# Altium integrated library Linear Technology Power Management Switching Regulator LT1074-LT8705.IntLib: 2252 symbols (part 83 of 148)
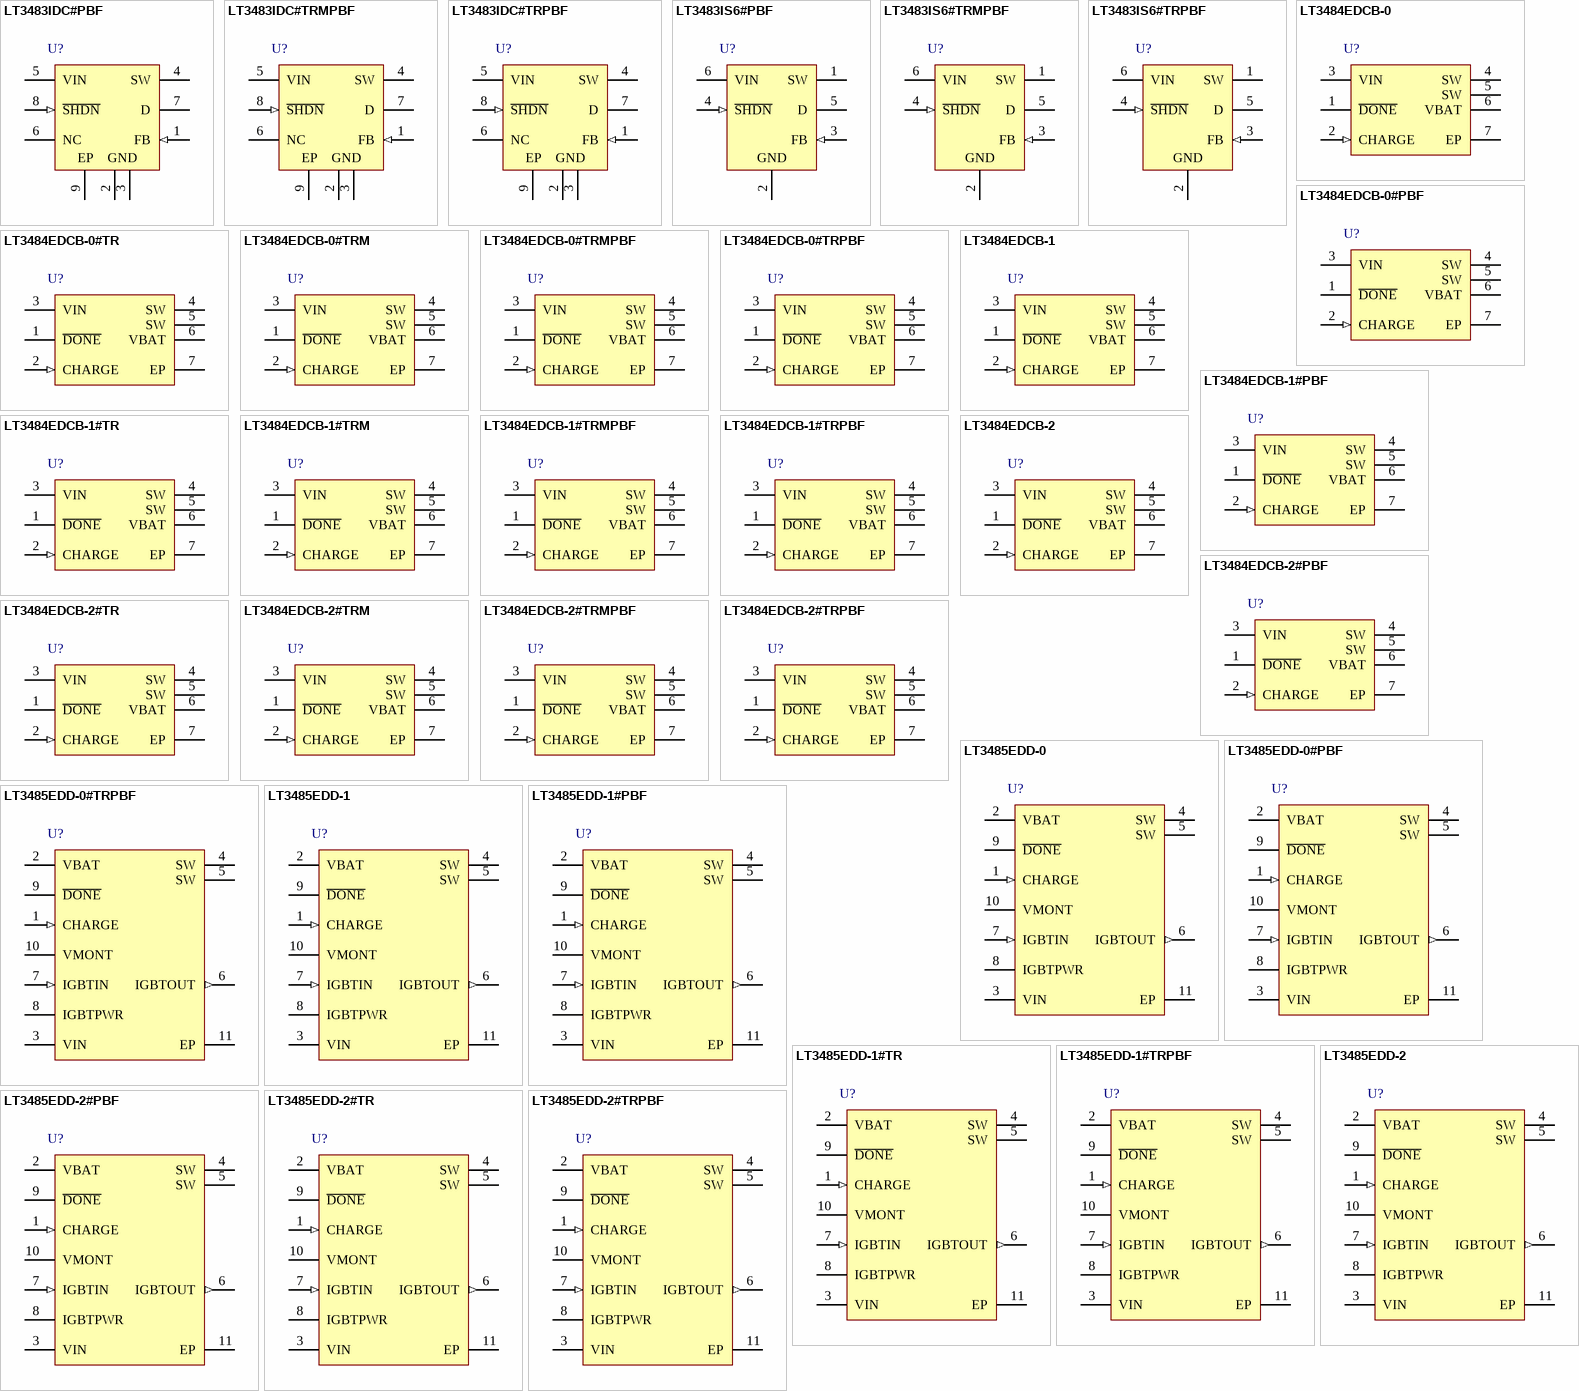
[diagram p153: symbols LT3483IDC#PBF to LT3485EDD-2#TRPBF]

## LT3485EDD-2#PBF
designator U?
Photoflash Capacitor Chargers with Output Voltage Monitor and Integrated IGBT Drive, 10-pin SON (DD-10), -40 to 85 degC, Pb-Free; Manufacturer: Linear Technology; PartNumber: LT3485EDD-2#PBF; Number of Outputs: 1; DatasheetVersion: Rev. B; PackageVersion: Rev. C, 06/2010; PackageReference: DD-10; PackageDescription: 10-Pin Plastic DFN, Body 3 x 3 mm, Pitch 0.5 mm; Supplier 1: Digi-Key; Supplier Part Number 1: LT3485EDD-2#PBF-ND; RoHS: TRUE; Mounting Technology: Surface Mount; Code_JEDEC: MO-229; ComponentLink1Description: Manufacturer URL; ComponentLink1URL: http://www.linear.com/; ComponentLink2Description: Datasheet; ComponentLink2URL: http://cds.linear.com/docs/en/datasheet/34850123fb.pdf; ComponentLink3Description: Package Specification; ComponentLink3URL: http://cds.linear.com/docs/en/packaging/DFN_10_05-08-1699.pdf
footprint LT-DD-10_V (SON, 10-Leads, Body 3x3mm, Pitch 0.5mm, Thermal Pad 2.38x1.65mm)
pins: 1 CHARGE (in) "Charge Pin. A low (<0.3V) to high (>1V) transition on this pin puts the part into power delivery mode. Once the target voltage is reached, the part will stop charging the output. Toggle this pin to start charging again. (See Datasheet)", 2 VBAT (power) "Battery Supply Pin. Must be locally bypassed with a good quality ceramic capacitor. Battery supply must be 1.7V or higher.", 3 VIN (power) "Input Supply Pin. Must be locally bypassed with a good quality ceramic capacitor. Input supply must be 2.5V or higher.", 4 SW (power) "Switch Pin. This is the collector of the internal NPN power switch. Minimize the metal trace area connected to this pin to minimize EMI. Tie one side of the primary of the transformer to this pin. The target output voltage (See Datasheet)", 5 SW (power) "Switch Pin. This is the collector of the internal NPN power switch. Minimize the metal trace area connected to this pin to minimize EMI. Tie one side of the primary of the transformer to this pin. The target output voltage (See Datasheet)", 6 IGBTOUT (out) "Output Drive for IGBT Gate. Connect this pin to the gate of the IGBT.", 7 IGBTIN (in) "Logic Input Pin for IGBT Drive. When this pin is driven higher than 1.5V, the IGBT output pin goes high. When the pin is below 0.3V, the output is low.", 8 IGBTPWR (power) "Input Supply Pin. Must be locally bypassed with a good quality ceramic capacitor. Input supply must be 0.1V higher than the turn-on voltage for the IGBT.", 9 ~{DONE} (oc) "Open NPN Collector Indication Pin. When target output voltage is reached, NPN turns on. This pin needs a pull-up resistor or current source.", 10 VMONT (power) "Supplies a voltage proportional to the output voltage where 1V is the end of charge voltage. Only valid while the part is charging.", 11 EP (power) "Ground. Tie directly to local ground plane"

## LT3485EDD-2#TR
designator U?
Photoflash Capacitor Chargers with Output Voltage Monitor and Integrated IGBT Drive, 10-pin SON (DD-10), -40 to 85 degC, Tape and Reel; Manufacturer: Linear Technology; PartNumber: LT3485EDD-2#TR; Number of Outputs: 1; DatasheetVersion: Rev. B; PackageVersion: Rev. C, 06/2010; PackageReference: DD-10; PackageDescription: 10-Pin Plastic DFN, Body 3 x 3 mm, Pitch 0.5 mm; Packing: Tape and Reel; RoHS: FALSE; Mounting Technology: Surface Mount; Code_JEDEC: MO-229; ComponentLink1Description: Manufacturer URL; ComponentLink1URL: http://www.linear.com/; ComponentLink2Description: Datasheet; ComponentLink2URL: http://cds.linear.com/docs/en/datasheet/34850123fb.pdf; ComponentLink3Description: Package Specification; ComponentLink3URL: http://cds.linear.com/docs/en/packaging/DFN_10_05-08-1699.pdf
footprint LT-DD-10_V (SON, 10-Leads, Body 3x3mm, Pitch 0.5mm, Thermal Pad 2.38x1.65mm)
pins: 1 CHARGE (in) "Charge Pin. A low (<0.3V) to high (>1V) transition on this pin puts the part into power delivery mode. Once the target voltage is reached, the part will stop charging the output. Toggle this pin to start charging again. (See Datasheet)", 2 VBAT (power) "Battery Supply Pin. Must be locally bypassed with a good quality ceramic capacitor. Battery supply must be 1.7V or higher.", 3 VIN (power) "Input Supply Pin. Must be locally bypassed with a good quality ceramic capacitor. Input supply must be 2.5V or higher.", 4 SW (power) "Switch Pin. This is the collector of the internal NPN power switch. Minimize the metal trace area connected to this pin to minimize EMI. Tie one side of the primary of the transformer to this pin. The target output voltage (See Datasheet)", 5 SW (power) "Switch Pin. This is the collector of the internal NPN power switch. Minimize the metal trace area connected to this pin to minimize EMI. Tie one side of the primary of the transformer to this pin. The target output voltage (See Datasheet)", 6 IGBTOUT (out) "Output Drive for IGBT Gate. Connect this pin to the gate of the IGBT.", 7 IGBTIN (in) "Logic Input Pin for IGBT Drive. When this pin is driven higher than 1.5V, the IGBT output pin goes high. When the pin is below 0.3V, the output is low.", 8 IGBTPWR (power) "Input Supply Pin. Must be locally bypassed with a good quality ceramic capacitor. Input supply must be 0.1V higher than the turn-on voltage for the IGBT.", 9 ~{DONE} (oc) "Open NPN Collector Indication Pin. When target output voltage is reached, NPN turns on. This pin needs a pull-up resistor or current source.", 10 VMONT (power) "Supplies a voltage proportional to the output voltage where 1V is the end of charge voltage. Only valid while the part is charging.", 11 EP (power) "Ground. Tie directly to local ground plane"

## LT3485EDD-2#TRPBF
designator U?
Photoflash Capacitor Chargers with Output Voltage Monitor and Integrated IGBT Drive, 10-pin SON (DD-10), -40 to 85 degC, Pb-Free, Tape and Reel; Manufacturer: Linear Technology; PartNumber: LT3485EDD-2#TRPBF; Number of Outputs: 1; DatasheetVersion: Rev. B; PackageVersion: Rev. C, 06/2010; PackageReference: DD-10; PackageDescription: 10-Pin Plastic DFN, Body 3 x 3 mm, Pitch 0.5 mm; Supplier 1: Digi-Key; Supplier Part Number 1: LT3485EDD-2#TRPBF-ND; Packing: Tape and Reel; RoHS: TRUE; Mounting Technology: Surface Mount; Code_JEDEC: MO-229; ComponentLink1Description: Manufacturer URL; ComponentLink1URL: http://www.linear.com/; ComponentLink2Description: Datasheet; ComponentLink2URL: http://cds.linear.com/docs/en/datasheet/34850123fb.pdf; ComponentLink3Description: Package Specification; ComponentLink3URL: http://cds.linear.com/docs/en/packaging/DFN_10_05-08-1699.pdf
footprint LT-DD-10_V (SON, 10-Leads, Body 3x3mm, Pitch 0.5mm, Thermal Pad 2.38x1.65mm)
pins: 1 CHARGE (in) "Charge Pin. A low (<0.3V) to high (>1V) transition on this pin puts the part into power delivery mode. Once the target voltage is reached, the part will stop charging the output. Toggle this pin to start charging again. (See Datasheet)", 2 VBAT (power) "Battery Supply Pin. Must be locally bypassed with a good quality ceramic capacitor. Battery supply must be 1.7V or higher.", 3 VIN (power) "Input Supply Pin. Must be locally bypassed with a good quality ceramic capacitor. Input supply must be 2.5V or higher.", 4 SW (power) "Switch Pin. This is the collector of the internal NPN power switch. Minimize the metal trace area connected to this pin to minimize EMI. Tie one side of the primary of the transformer to this pin. The target output voltage (See Datasheet)", 5 SW (power) "Switch Pin. This is the collector of the internal NPN power switch. Minimize the metal trace area connected to this pin to minimize EMI. Tie one side of the primary of the transformer to this pin. The target output voltage (See Datasheet)", 6 IGBTOUT (out) "Output Drive for IGBT Gate. Connect this pin to the gate of the IGBT.", 7 IGBTIN (in) "Logic Input Pin for IGBT Drive. When this pin is driven higher than 1.5V, the IGBT output pin goes high. When the pin is below 0.3V, the output is low.", 8 IGBTPWR (power) "Input Supply Pin. Must be locally bypassed with a good quality ceramic capacitor. Input supply must be 0.1V higher than the turn-on voltage for the IGBT.", 9 ~{DONE} (oc) "Open NPN Collector Indication Pin. When target output voltage is reached, NPN turns on. This pin needs a pull-up resistor or current source.", 10 VMONT (power) "Supplies a voltage proportional to the output voltage where 1V is the end of charge voltage. Only valid while the part is charging.", 11 EP (power) "Ground. Tie directly to local ground plane"

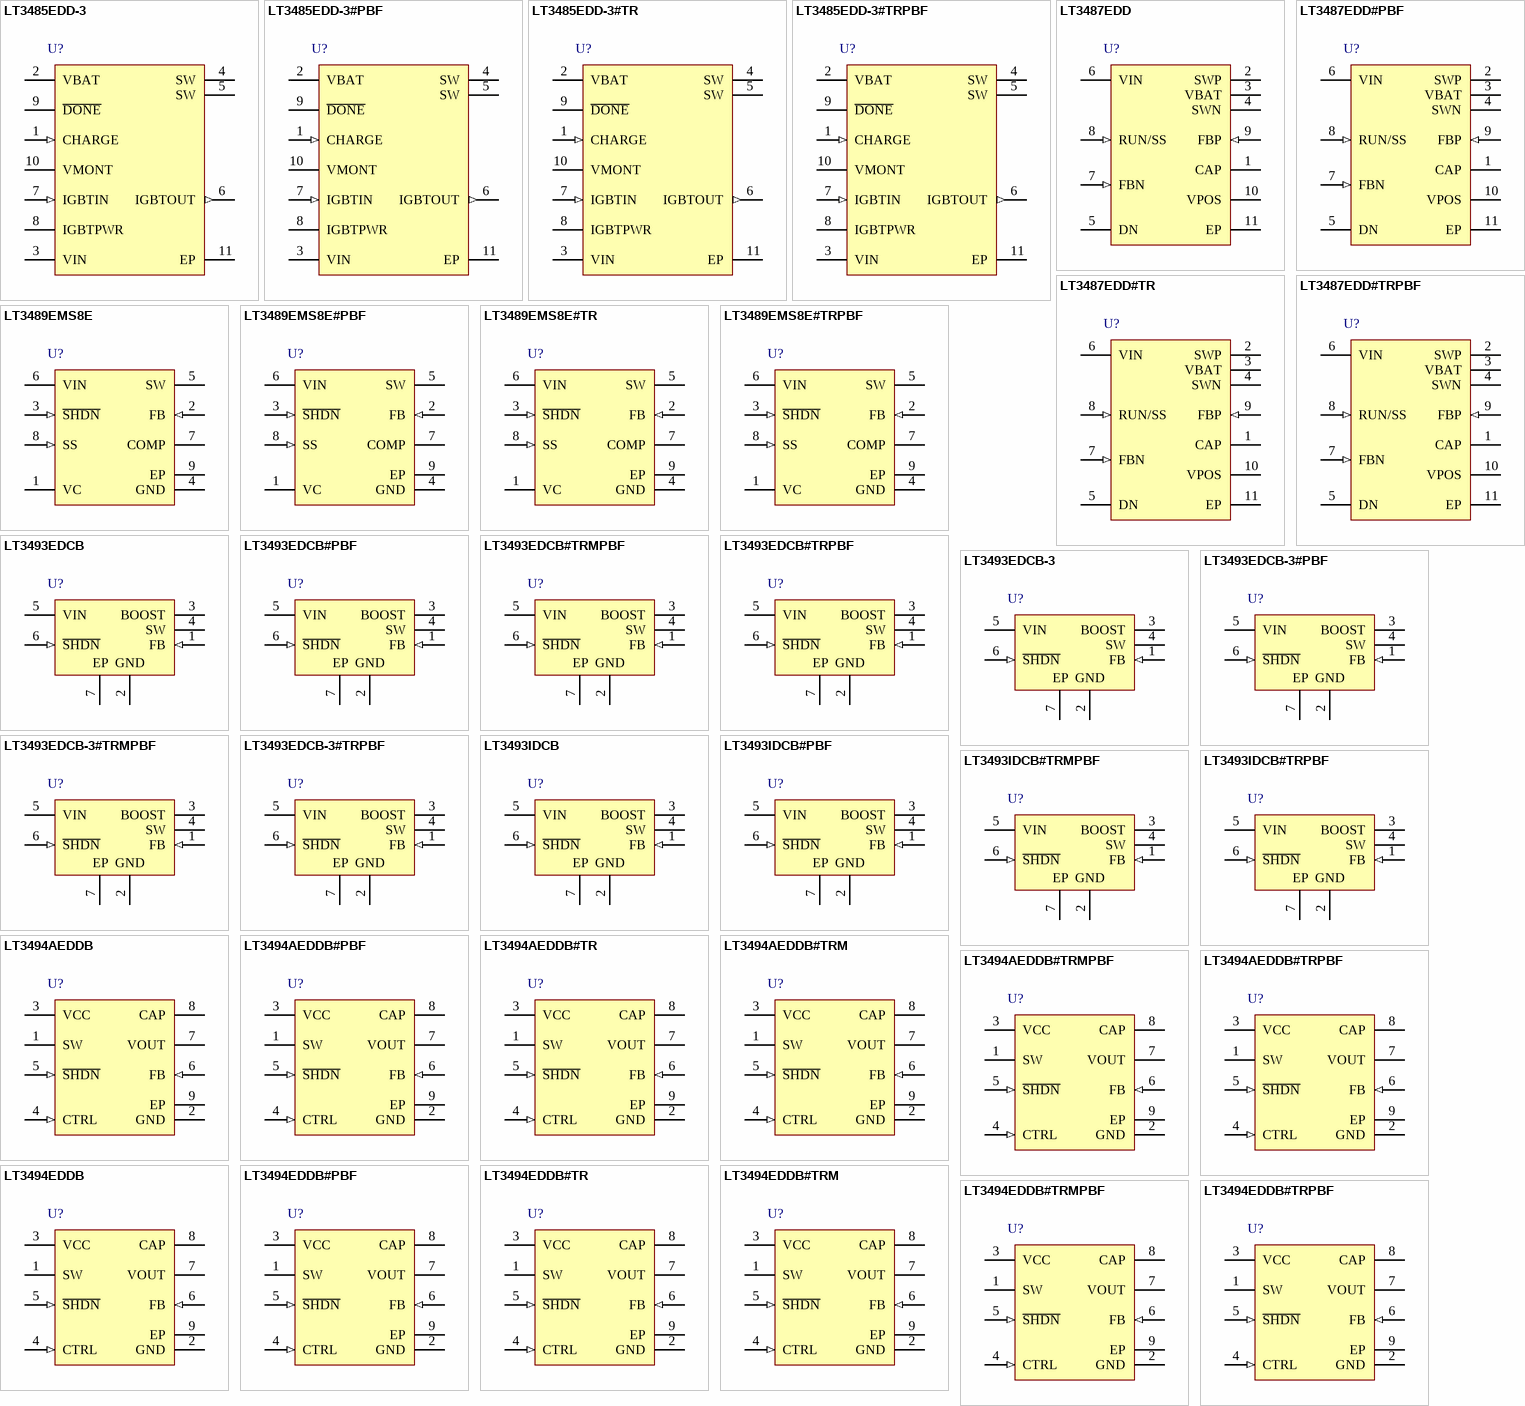
[diagram p42: symbols LT3485EDD-3 to LT3494EDDB#TRPBF]

## LT3485EDD-3
designator U?
Photoflash Capacitor Chargers with Output Voltage Monitor and Integrated IGBT Drive, 10-pin SON (DD-10), -40 to 85 degC; Manufacturer: Linear Technology; PartNumber: LT3485EDD-3; Number of Outputs: 1; DatasheetVersion: Rev. B; PackageVersion: Rev. C, 06/2010; PackageReference: DD-10; PackageDescription: 10-Pin Plastic DFN, Body 3 x 3 mm, Pitch 0.5 mm; RoHS: FALSE; Mounting Technology: Surface Mount; Code_JEDEC: MO-229; ComponentLink1Description: Manufacturer URL; ComponentLink1URL: http://www.linear.com/; ComponentLink2Description: Datasheet; ComponentLink2URL: http://cds.linear.com/docs/en/datasheet/34850123fb.pdf; ComponentLink3Description: Package Specification; ComponentLink3URL: http://cds.linear.com/docs/en/packaging/DFN_10_05-08-1699.pdf
footprint LT-DD-10_V (SON, 10-Leads, Body 3x3mm, Pitch 0.5mm, Thermal Pad 2.38x1.65mm)
pins: 1 CHARGE (in) "Charge Pin. A low (<0.3V) to high (>1V) transition on this pin puts the part into power delivery mode. Once the target voltage is reached, the part will stop charging the output. Toggle this pin to start charging again. (See Datasheet)", 2 VBAT (power) "Battery Supply Pin. Must be locally bypassed with a good quality ceramic capacitor. Battery supply must be 1.7V or higher.", 3 VIN (power) "Input Supply Pin. Must be locally bypassed with a good quality ceramic capacitor. Input supply must be 2.5V or higher.", 4 SW (power) "Switch Pin. This is the collector of the internal NPN power switch. Minimize the metal trace area connected to this pin to minimize EMI. Tie one side of the primary of the transformer to this pin. The target output voltage (See Datasheet)", 5 SW (power) "Switch Pin. This is the collector of the internal NPN power switch. Minimize the metal trace area connected to this pin to minimize EMI. Tie one side of the primary of the transformer to this pin. The target output voltage (See Datasheet)", 6 IGBTOUT (out) "Output Drive for IGBT Gate. Connect this pin to the gate of the IGBT.", 7 IGBTIN (in) "Logic Input Pin for IGBT Drive. When this pin is driven higher than 1.5V, the IGBT output pin goes high. When the pin is below 0.3V, the output is low.", 8 IGBTPWR (power) "Input Supply Pin. Must be locally bypassed with a good quality ceramic capacitor. Input supply must be 0.1V higher than the turn-on voltage for the IGBT.", 9 ~{DONE} (oc) "Open NPN Collector Indication Pin. When target output voltage is reached, NPN turns on. This pin needs a pull-up resistor or current source.", 10 VMONT (power) "Supplies a voltage proportional to the output voltage where 1V is the end of charge voltage. Only valid while the part is charging.", 11 EP (power) "Ground. Tie directly to local ground plane"

## LT3485EDD-3#PBF
designator U?
Photoflash Capacitor Chargers with Output Voltage Monitor and Integrated IGBT Drive, 10-pin SON (DD-10), -40 to 85 degC, Pb-Free; Manufacturer: Linear Technology; PartNumber: LT3485EDD-3#PBF; Number of Outputs: 1; DatasheetVersion: Rev. B; PackageVersion: Rev. C, 06/2010; PackageReference: DD-10; PackageDescription: 10-Pin Plastic DFN, Body 3 x 3 mm, Pitch 0.5 mm; Supplier 1: Digi-Key; Supplier Part Number 1: LT3485EDD-3#PBF-ND; RoHS: TRUE; Mounting Technology: Surface Mount; Code_JEDEC: MO-229; ComponentLink1Description: Manufacturer URL; ComponentLink1URL: http://www.linear.com/; ComponentLink2Description: Datasheet; ComponentLink2URL: http://cds.linear.com/docs/en/datasheet/34850123fb.pdf; ComponentLink3Description: Package Specification; ComponentLink3URL: http://cds.linear.com/docs/en/packaging/DFN_10_05-08-1699.pdf
footprint LT-DD-10_V (SON, 10-Leads, Body 3x3mm, Pitch 0.5mm, Thermal Pad 2.38x1.65mm)
pins: 1 CHARGE (in) "Charge Pin. A low (<0.3V) to high (>1V) transition on this pin puts the part into power delivery mode. Once the target voltage is reached, the part will stop charging the output. Toggle this pin to start charging again. (See Datasheet)", 2 VBAT (power) "Battery Supply Pin. Must be locally bypassed with a good quality ceramic capacitor. Battery supply must be 1.7V or higher.", 3 VIN (power) "Input Supply Pin. Must be locally bypassed with a good quality ceramic capacitor. Input supply must be 2.5V or higher.", 4 SW (power) "Switch Pin. This is the collector of the internal NPN power switch. Minimize the metal trace area connected to this pin to minimize EMI. Tie one side of the primary of the transformer to this pin. The target output voltage (See Datasheet)", 5 SW (power) "Switch Pin. This is the collector of the internal NPN power switch. Minimize the metal trace area connected to this pin to minimize EMI. Tie one side of the primary of the transformer to this pin. The target output voltage (See Datasheet)", 6 IGBTOUT (out) "Output Drive for IGBT Gate. Connect this pin to the gate of the IGBT.", 7 IGBTIN (in) "Logic Input Pin for IGBT Drive. When this pin is driven higher than 1.5V, the IGBT output pin goes high. When the pin is below 0.3V, the output is low.", 8 IGBTPWR (power) "Input Supply Pin. Must be locally bypassed with a good quality ceramic capacitor. Input supply must be 0.1V higher than the turn-on voltage for the IGBT.", 9 ~{DONE} (oc) "Open NPN Collector Indication Pin. When target output voltage is reached, NPN turns on. This pin needs a pull-up resistor or current source.", 10 VMONT (power) "Supplies a voltage proportional to the output voltage where 1V is the end of charge voltage. Only valid while the part is charging.", 11 EP (power) "Ground. Tie directly to local ground plane"

## LT3485EDD-3#TR
designator U?
Photoflash Capacitor Chargers with Output Voltage Monitor and Integrated IGBT Drive, 10-pin SON (DD-10), -40 to 85 degC, Tape and Reel; Manufacturer: Linear Technology; PartNumber: LT3485EDD-3#TR; Number of Outputs: 1; DatasheetVersion: Rev. B; PackageVersion: Rev. C, 06/2010; PackageReference: DD-10; PackageDescription: 10-Pin Plastic DFN, Body 3 x 3 mm, Pitch 0.5 mm; Packing: Tape and Reel; RoHS: FALSE; Mounting Technology: Surface Mount; Code_JEDEC: MO-229; ComponentLink1Description: Manufacturer URL; ComponentLink1URL: http://www.linear.com/; ComponentLink2Description: Datasheet; ComponentLink2URL: http://cds.linear.com/docs/en/datasheet/34850123fb.pdf; ComponentLink3Description: Package Specification; ComponentLink3URL: http://cds.linear.com/docs/en/packaging/DFN_10_05-08-1699.pdf
footprint LT-DD-10_V (SON, 10-Leads, Body 3x3mm, Pitch 0.5mm, Thermal Pad 2.38x1.65mm)
pins: 1 CHARGE (in) "Charge Pin. A low (<0.3V) to high (>1V) transition on this pin puts the part into power delivery mode. Once the target voltage is reached, the part will stop charging the output. Toggle this pin to start charging again. (See Datasheet)", 2 VBAT (power) "Battery Supply Pin. Must be locally bypassed with a good quality ceramic capacitor. Battery supply must be 1.7V or higher.", 3 VIN (power) "Input Supply Pin. Must be locally bypassed with a good quality ceramic capacitor. Input supply must be 2.5V or higher.", 4 SW (power) "Switch Pin. This is the collector of the internal NPN power switch. Minimize the metal trace area connected to this pin to minimize EMI. Tie one side of the primary of the transformer to this pin. The target output voltage (See Datasheet)", 5 SW (power) "Switch Pin. This is the collector of the internal NPN power switch. Minimize the metal trace area connected to this pin to minimize EMI. Tie one side of the primary of the transformer to this pin. The target output voltage (See Datasheet)", 6 IGBTOUT (out) "Output Drive for IGBT Gate. Connect this pin to the gate of the IGBT.", 7 IGBTIN (in) "Logic Input Pin for IGBT Drive. When this pin is driven higher than 1.5V, the IGBT output pin goes high. When the pin is below 0.3V, the output is low.", 8 IGBTPWR (power) "Input Supply Pin. Must be locally bypassed with a good quality ceramic capacitor. Input supply must be 0.1V higher than the turn-on voltage for the IGBT.", 9 ~{DONE} (oc) "Open NPN Collector Indication Pin. When target output voltage is reached, NPN turns on. This pin needs a pull-up resistor or current source.", 10 VMONT (power) "Supplies a voltage proportional to the output voltage where 1V is the end of charge voltage. Only valid while the part is charging.", 11 EP (power) "Ground. Tie directly to local ground plane"

## LT3485EDD-3#TRPBF
designator U?
Photoflash Capacitor Chargers with Output Voltage Monitor and Integrated IGBT Drive, 10-pin SON (DD-10), -40 to 85 degC, Pb-Free, Tape and Reel; Manufacturer: Linear Technology; PartNumber: LT3485EDD-3#TRPBF; Number of Outputs: 1; DatasheetVersion: Rev. B; PackageVersion: Rev. C, 06/2010; PackageReference: DD-10; PackageDescription: 10-Pin Plastic DFN, Body 3 x 3 mm, Pitch 0.5 mm; Supplier 1: Digi-Key; Supplier Part Number 1: LT3485EDD-3#TRPBF-ND; Packing: Tape and Reel; RoHS: TRUE; Mounting Technology: Surface Mount; Code_JEDEC: MO-229; ComponentLink1Description: Manufacturer URL; ComponentLink1URL: http://www.linear.com/; ComponentLink2Description: Datasheet; ComponentLink2URL: http://cds.linear.com/docs/en/datasheet/34850123fb.pdf; ComponentLink3Description: Package Specification; ComponentLink3URL: http://cds.linear.com/docs/en/packaging/DFN_10_05-08-1699.pdf
footprint LT-DD-10_V (SON, 10-Leads, Body 3x3mm, Pitch 0.5mm, Thermal Pad 2.38x1.65mm)
pins: 1 CHARGE (in) "Charge Pin. A low (<0.3V) to high (>1V) transition on this pin puts the part into power delivery mode. Once the target voltage is reached, the part will stop charging the output. Toggle this pin to start charging again. (See Datasheet)", 2 VBAT (power) "Battery Supply Pin. Must be locally bypassed with a good quality ceramic capacitor. Battery supply must be 1.7V or higher.", 3 VIN (power) "Input Supply Pin. Must be locally bypassed with a good quality ceramic capacitor. Input supply must be 2.5V or higher.", 4 SW (power) "Switch Pin. This is the collector of the internal NPN power switch. Minimize the metal trace area connected to this pin to minimize EMI. Tie one side of the primary of the transformer to this pin. The target output voltage (See Datasheet)", 5 SW (power) "Switch Pin. This is the collector of the internal NPN power switch. Minimize the metal trace area connected to this pin to minimize EMI. Tie one side of the primary of the transformer to this pin. The target output voltage (See Datasheet)", 6 IGBTOUT (out) "Output Drive for IGBT Gate. Connect this pin to the gate of the IGBT.", 7 IGBTIN (in) "Logic Input Pin for IGBT Drive. When this pin is driven higher than 1.5V, the IGBT output pin goes high. When the pin is below 0.3V, the output is low.", 8 IGBTPWR (power) "Input Supply Pin. Must be locally bypassed with a good quality ceramic capacitor. Input supply must be 0.1V higher than the turn-on voltage for the IGBT.", 9 ~{DONE} (oc) "Open NPN Collector Indication Pin. When target output voltage is reached, NPN turns on. This pin needs a pull-up resistor or current source.", 10 VMONT (power) "Supplies a voltage proportional to the output voltage where 1V is the end of charge voltage. Only valid while the part is charging.", 11 EP (power) "Ground. Tie directly to local ground plane"

## LT3487EDD
designator U?
Boost and Inverting Switching Regulator for CCD Bias, 10-pin SON (DD-10), -40 to 85 degC; Manufacturer: Linear Technology; PartNumber: LT3487EDD; Number of Outputs: 2; PackageVersion: Rev. C, 06/2010; PackageReference: DD-10; PackageDescription: 10-Pin Plastic DFN, Body 3 x 3 mm, Pitch 0.5 mm; RoHS: FALSE; Mounting Technology: Surface Mount; Code_JEDEC: MO-229; ComponentLink1Description: Manufacturer URL; ComponentLink1URL: http://www.linear.com/; ComponentLink2Description: Datasheet; ComponentLink2URL: http://cds.linear.com/docs/en/datasheet/3487f.pdf; ComponentLink3Description: Package Specification; ComponentLink3URL: http://cds.linear.com/docs/en/packaging/DFN_10_05-08-1699.pdf
footprint LT-DD-10_V (SON, 10-Leads, Body 3x3mm, Pitch 0.5mm, Thermal Pad 2.38x1.65mm)
pins: 1 CAP "Disconnect-PNP Emitter and Positive Schottky Cathode. Acts as an intermediate positive (boost) output. Connect boost output capacitor to this pin.", 2 SWP "Switch Pin and Schottky Anode for Positive Channel. Connect boost inductor to this pin.", 3 VBAT (power) "Battery Voltage. Connect this pin to the supply voltage for the boost inductor. The disconnect drive current is returned to this pin. The disconnect operates until CAP falls to 1.2V above VBAT.", 4 SWN "Switch Pin for Negative (Inverter) Channel. Connect inverter input inductor and flying capacitor here.", 5 DN "Anode of Internal Schottky for Inverter. Connect inverter output inductor and flying capacitor here.", 6 VIN (power) "Input Supply Pin. VIN is used to power the control circuitry of the LT3487. This pin must be locally bypassed with an X5R or X7R type ceramic capacitor", 7 FBN (in) "Feedback Pin for Inverter. Connect feedback resistor R2 from this pin to VNEG.", 8 RUN/SS (in) "Run/Soft-Start Pin. Connect to an opendrain transistor. The transistor must sink 1.4uA from RUN/SS. Pull RUN/SS below 100mV to shut down the chip. Connect a capacitor from RUN/SS to ground to program soft-start functionality.(See Datasheet)", 9 FBP (in) "Feedback Pin for Boost. Connect boost feedback resistor R1 from FBP to CAP.", 10 VPOS (power) "Output Pin for Boost Channel. VPOS is the collector of the output disconnect PNP. Connect the boost load to VPOS. Connect capacitor C5 between CAP and VPOS for stability.", 11 EP (power) "GND. Tie directly to ground plane through multiple vias under the package for optimum thermal performance."

## LT3487EDD#PBF
designator U?
Boost and Inverting Switching Regulator for CCD Bias, 10-pin SON (DD-10), -40 to 85 degC, Pb-Free; Manufacturer: Linear Technology; PartNumber: LT3487EDD#PBF; Number of Outputs: 2; PackageVersion: Rev. C, 06/2010; PackageReference: DD-10; PackageDescription: 10-Pin Plastic DFN, Body 3 x 3 mm, Pitch 0.5 mm; Supplier 1: Digi-Key; Supplier Part Number 1: LT3487EDD#PBF-ND; Supplier 2: Farnell; Supplier Part Number 2: 1663565; Supplier 3: Newark; Supplier Part Number 3: 57M8414; RoHS: TRUE; Mounting Technology: Surface Mount; Code_JEDEC: MO-229; ComponentLink1Description: Manufacturer URL; ComponentLink1URL: http://www.linear.com/; ComponentLink2Description: Datasheet; ComponentLink2URL: http://cds.linear.com/docs/en/datasheet/3487f.pdf; ComponentLink3Description: Package Specification; ComponentLink3URL: http://cds.linear.com/docs/en/packaging/DFN_10_05-08-1699.pdf
footprint LT-DD-10_V (SON, 10-Leads, Body 3x3mm, Pitch 0.5mm, Thermal Pad 2.38x1.65mm)
pins: 1 CAP "Disconnect-PNP Emitter and Positive Schottky Cathode. Acts as an intermediate positive (boost) output. Connect boost output capacitor to this pin.", 2 SWP "Switch Pin and Schottky Anode for Positive Channel. Connect boost inductor to this pin.", 3 VBAT (power) "Battery Voltage. Connect this pin to the supply voltage for the boost inductor. The disconnect drive current is returned to this pin. The disconnect operates until CAP falls to 1.2V above VBAT.", 4 SWN "Switch Pin for Negative (Inverter) Channel. Connect inverter input inductor and flying capacitor here.", 5 DN "Anode of Internal Schottky for Inverter. Connect inverter output inductor and flying capacitor here.", 6 VIN (power) "Input Supply Pin. VIN is used to power the control circuitry of the LT3487. This pin must be locally bypassed with an X5R or X7R type ceramic capacitor", 7 FBN (in) "Feedback Pin for Inverter. Connect feedback resistor R2 from this pin to VNEG.", 8 RUN/SS (in) "Run/Soft-Start Pin. Connect to an opendrain transistor. The transistor must sink 1.4uA from RUN/SS. Pull RUN/SS below 100mV to shut down the chip. Connect a capacitor from RUN/SS to ground to program soft-start functionality.(See Datasheet)", 9 FBP (in) "Feedback Pin for Boost. Connect boost feedback resistor R1 from FBP to CAP.", 10 VPOS (power) "Output Pin for Boost Channel. VPOS is the collector of the output disconnect PNP. Connect the boost load to VPOS. Connect capacitor C5 between CAP and VPOS for stability.", 11 EP (power) "GND. Tie directly to ground plane through multiple vias under the package for optimum thermal performance."

## LT3487EDD#TR
designator U?
Boost and Inverting Switching Regulator for CCD Bias, 10-pin SON (DD-10), -40 to 85 degC, Tape and Reel; Manufacturer: Linear Technology; PartNumber: LT3487EDD#TR; Number of Outputs: 2; PackageVersion: Rev. C, 06/2010; PackageReference: DD-10; PackageDescription: 10-Pin Plastic DFN, Body 3 x 3 mm, Pitch 0.5 mm; Packing: Tape and Reel; RoHS: FALSE; Mounting Technology: Surface Mount; Code_JEDEC: MO-229; ComponentLink1Description: Manufacturer URL; ComponentLink1URL: http://www.linear.com/; ComponentLink2Description: Datasheet; ComponentLink2URL: http://cds.linear.com/docs/en/datasheet/3487f.pdf; ComponentLink3Description: Package Specification; ComponentLink3URL: http://cds.linear.com/docs/en/packaging/DFN_10_05-08-1699.pdf
footprint LT-DD-10_V (SON, 10-Leads, Body 3x3mm, Pitch 0.5mm, Thermal Pad 2.38x1.65mm)
pins: 1 CAP "Disconnect-PNP Emitter and Positive Schottky Cathode. Acts as an intermediate positive (boost) output. Connect boost output capacitor to this pin.", 2 SWP "Switch Pin and Schottky Anode for Positive Channel. Connect boost inductor to this pin.", 3 VBAT (power) "Battery Voltage. Connect this pin to the supply voltage for the boost inductor. The disconnect drive current is returned to this pin. The disconnect operates until CAP falls to 1.2V above VBAT.", 4 SWN "Switch Pin for Negative (Inverter) Channel. Connect inverter input inductor and flying capacitor here.", 5 DN "Anode of Internal Schottky for Inverter. Connect inverter output inductor and flying capacitor here.", 6 VIN (power) "Input Supply Pin. VIN is used to power the control circuitry of the LT3487. This pin must be locally bypassed with an X5R or X7R type ceramic capacitor", 7 FBN (in) "Feedback Pin for Inverter. Connect feedback resistor R2 from this pin to VNEG.", 8 RUN/SS (in) "Run/Soft-Start Pin. Connect to an opendrain transistor. The transistor must sink 1.4uA from RUN/SS. Pull RUN/SS below 100mV to shut down the chip. Connect a capacitor from RUN/SS to ground to program soft-start functionality.(See Datasheet)", 9 FBP (in) "Feedback Pin for Boost. Connect boost feedback resistor R1 from FBP to CAP.", 10 VPOS (power) "Output Pin for Boost Channel. VPOS is the collector of the output disconnect PNP. Connect the boost load to VPOS. Connect capacitor C5 between CAP and VPOS for stability.", 11 EP (power) "GND. Tie directly to ground plane through multiple vias under the package for optimum thermal performance."

## LT3487EDD#TRPBF
designator U?
Boost and Inverting Switching Regulator for CCD Bias, 10-pin SON (DD-10), -40 to 85 degC, Pb-Free, Tape and Reel; Manufacturer: Linear Technology; PartNumber: LT3487EDD#TRPBF; Number of Outputs: 2; PackageVersion: Rev. C, 06/2010; PackageReference: DD-10; PackageDescription: 10-Pin Plastic DFN, Body 3 x 3 mm, Pitch 0.5 mm; Supplier 1: Digi-Key; Supplier Part Number 1: LT3487EDD#TRPBF-ND; Packing: Tape and Reel; RoHS: TRUE; Mounting Technology: Surface Mount; Code_JEDEC: MO-229; ComponentLink1Description: Manufacturer URL; ComponentLink1URL: http://www.linear.com/; ComponentLink2Description: Datasheet; ComponentLink2URL: http://cds.linear.com/docs/en/datasheet/3487f.pdf; ComponentLink3Description: Package Specification; ComponentLink3URL: http://cds.linear.com/docs/en/packaging/DFN_10_05-08-1699.pdf
footprint LT-DD-10_V (SON, 10-Leads, Body 3x3mm, Pitch 0.5mm, Thermal Pad 2.38x1.65mm)
pins: 1 CAP "Disconnect-PNP Emitter and Positive Schottky Cathode. Acts as an intermediate positive (boost) output. Connect boost output capacitor to this pin.", 2 SWP "Switch Pin and Schottky Anode for Positive Channel. Connect boost inductor to this pin.", 3 VBAT (power) "Battery Voltage. Connect this pin to the supply voltage for the boost inductor. The disconnect drive current is returned to this pin. The disconnect operates until CAP falls to 1.2V above VBAT.", 4 SWN "Switch Pin for Negative (Inverter) Channel. Connect inverter input inductor and flying capacitor here.", 5 DN "Anode of Internal Schottky for Inverter. Connect inverter output inductor and flying capacitor here.", 6 VIN (power) "Input Supply Pin. VIN is used to power the control circuitry of the LT3487. This pin must be locally bypassed with an X5R or X7R type ceramic capacitor", 7 FBN (in) "Feedback Pin for Inverter. Connect feedback resistor R2 from this pin to VNEG.", 8 RUN/SS (in) "Run/Soft-Start Pin. Connect to an opendrain transistor. The transistor must sink 1.4uA from RUN/SS. Pull RUN/SS below 100mV to shut down the chip. Connect a capacitor from RUN/SS to ground to program soft-start functionality.(See Datasheet)", 9 FBP (in) "Feedback Pin for Boost. Connect boost feedback resistor R1 from FBP to CAP.", 10 VPOS (power) "Output Pin for Boost Channel. VPOS is the collector of the output disconnect PNP. Connect the boost load to VPOS. Connect capacitor C5 between CAP and VPOS for stability.", 11 EP (power) "GND. Tie directly to ground plane through multiple vias under the package for optimum thermal performance."

## LT3489EMS8E
designator U?
2 MHz Boost DC/DC Converter with 2.5 A Switch and Soft-Start, 8-pin SOP (MS8E-8), -40 to 85 degC; Manufacturer: Linear Technology; PartNumber: LT3489EMS8E; Number of Outputs: 1; PackageVersion: Rev. E; PackageReference: MS8E-8; PackageDescription: 8-Pin Plastic MSOP, Exposed Die Pad, Body 3 x 3 mm, Pitch 0.65 mm; RoHS: FALSE; Mounting Technology: Surface Mount; ComponentLink1Description: Manufacturer URL; ComponentLink1URL: http://www.linear.com/; ComponentLink2Description: Datasheet; ComponentLink2URL: http://cds.linear.com/docs/en/datasheet/3489f.pdf; ComponentLink3Description: Package Specification; ComponentLink3URL: http://cds.linear.com/docs/en/datasheet/4070fc.pdf
footprint LT-MS8E-8-2060X1830TP_N (SOP, 8-Leads, Body 3.1x3.1mm, Pitch 0.65mm, Thermal Pad 2.162x1.932mm, IPC Medium Density)
footprint LT-MS8E-8-2060X1830TP_L (SOP, 8-Leads, Body 3.1x3.1mm, Pitch 0.65mm, Thermal Pad 2.162x1.932mm, IPC High Density)
footprint LT-MS8E-8-2060X1830TP_M (SOP, 8-Leads, Body 3.1x3.1mm, Pitch 0.65mm, Thermal Pad 2.162x1.932mm, IPC Low Density)
pins: 1 VC "Error Amplifer Output Pin. Tie external compensation network to this pin, or use the internal compensation  network by shorting the VC pin to the COMP pin.", 2 FB (in) "Feedback Pin.", 3 ~{SHDN} (in) "Shutdown Pin. Ground to shut down. Do not foat this pin.", 4 GND (power) "Ground. Tie directly to local ground plane.", 5 SW (power) "Switch Pin. This is the collector of the internal  NPN power switch. Minimize the metal trace area connected  to this pin to minimize EMI.", 6 VIN (power) "Input Supply Pin. Must be locally bypassed.", 7 COMP "Internal Compensation Pin. Provides an internal compensation network. Tie directly to the VC pin for internal compensation. Tie to GND if not in use.", 8 SS (in) "Soft-Start Pin. Place a soft-start capacitor here.", 9 EP (power) "Ground."

## LT3489EMS8E#PBF
designator U?
2 MHz Boost DC/DC Converter with 2.5 A Switch and Soft-Start, 8-pin SOP (MS8E-8), -40 to 85 degC, Pb-Free; Manufacturer: Linear Technology; PartNumber: LT3489EMS8E#PBF; Number of Outputs: 1; PackageVersion: Rev. E; PackageReference: MS8E-8; PackageDescription: 8-Pin Plastic MSOP, Exposed Die Pad, Body 3 x 3 mm, Pitch 0.65 mm; Supplier 1: Digi-Key; Supplier Part Number 1: LT3489EMS8E#PBF-ND; Supplier 2: Farnell; Supplier Part Number 2: 2294917; Supplier 3: Newark; Supplier Part Number 3: 57M8418; RoHS: TRUE; Mounting Technology: Surface Mount; ComponentLink1Description: Manufacturer URL; ComponentLink1URL: http://www.linear.com/; ComponentLink2Description: Datasheet; ComponentLink2URL: http://cds.linear.com/docs/en/datasheet/3489f.pdf; ComponentLink3Description: Package Specification; ComponentLink3URL: http://cds.linear.com/docs/en/datasheet/4070fc.pdf
footprint LT-MS8E-8-2060X1830TP_N (SOP, 8-Leads, Body 3.1x3.1mm, Pitch 0.65mm, Thermal Pad 2.162x1.932mm, IPC Medium Density)
footprint LT-MS8E-8-2060X1830TP_L (SOP, 8-Leads, Body 3.1x3.1mm, Pitch 0.65mm, Thermal Pad 2.162x1.932mm, IPC High Density)
footprint LT-MS8E-8-2060X1830TP_M (SOP, 8-Leads, Body 3.1x3.1mm, Pitch 0.65mm, Thermal Pad 2.162x1.932mm, IPC Low Density)
pins: 1 VC "Error Amplifer Output Pin. Tie external compensation network to this pin, or use the internal compensation  network by shorting the VC pin to the COMP pin.", 2 FB (in) "Feedback Pin.", 3 ~{SHDN} (in) "Shutdown Pin. Ground to shut down. Do not foat this pin.", 4 GND (power) "Ground. Tie directly to local ground plane.", 5 SW (power) "Switch Pin. This is the collector of the internal  NPN power switch. Minimize the metal trace area connected  to this pin to minimize EMI.", 6 VIN (power) "Input Supply Pin. Must be locally bypassed.", 7 COMP "Internal Compensation Pin. Provides an internal compensation network. Tie directly to the VC pin for internal compensation. Tie to GND if not in use.", 8 SS (in) "Soft-Start Pin. Place a soft-start capacitor here.", 9 EP (power) "Ground."

## LT3489EMS8E#TR
designator U?
2 MHz Boost DC/DC Converter with 2.5 A Switch and Soft-Start, 8-pin SOP (MS8E-8), -40 to 85 degC, Tape and Reel; Manufacturer: Linear Technology; PartNumber: LT3489EMS8E#TR; Number of Outputs: 1; PackageVersion: Rev. E; PackageReference: MS8E-8; PackageDescription: 8-Pin Plastic MSOP, Exposed Die Pad, Body 3 x 3 mm, Pitch 0.65 mm; Packing: Tape and Reel; RoHS: FALSE; Mounting Technology: Surface Mount; ComponentLink1Description: Manufacturer URL; ComponentLink1URL: http://www.linear.com/; ComponentLink2Description: Datasheet; ComponentLink2URL: http://cds.linear.com/docs/en/datasheet/3489f.pdf; ComponentLink3Description: Package Specification; ComponentLink3URL: http://cds.linear.com/docs/en/datasheet/4070fc.pdf
footprint LT-MS8E-8-2060X1830TP_N (SOP, 8-Leads, Body 3.1x3.1mm, Pitch 0.65mm, Thermal Pad 2.162x1.932mm, IPC Medium Density)
footprint LT-MS8E-8-2060X1830TP_L (SOP, 8-Leads, Body 3.1x3.1mm, Pitch 0.65mm, Thermal Pad 2.162x1.932mm, IPC High Density)
footprint LT-MS8E-8-2060X1830TP_M (SOP, 8-Leads, Body 3.1x3.1mm, Pitch 0.65mm, Thermal Pad 2.162x1.932mm, IPC Low Density)
pins: 1 VC "Error Amplifer Output Pin. Tie external compensation network to this pin, or use the internal compensation  network by shorting the VC pin to the COMP pin.", 2 FB (in) "Feedback Pin.", 3 ~{SHDN} (in) "Shutdown Pin. Ground to shut down. Do not foat this pin.", 4 GND (power) "Ground. Tie directly to local ground plane.", 5 SW (power) "Switch Pin. This is the collector of the internal  NPN power switch. Minimize the metal trace area connected  to this pin to minimize EMI.", 6 VIN (power) "Input Supply Pin. Must be locally bypassed.", 7 COMP "Internal Compensation Pin. Provides an internal compensation network. Tie directly to the VC pin for internal compensation. Tie to GND if not in use.", 8 SS (in) "Soft-Start Pin. Place a soft-start capacitor here.", 9 EP (power) "Ground."

## LT3489EMS8E#TRPBF
designator U?
2 MHz Boost DC/DC Converter with 2.5 A Switch and Soft-Start, 8-pin SOP (MS8E-8), -40 to 85 degC, Pb-Free, Tape and Reel; Manufacturer: Linear Technology; PartNumber: LT3489EMS8E#TRPBF; Number of Outputs: 1; PackageVersion: Rev. E; PackageReference: MS8E-8; PackageDescription: 8-Pin Plastic MSOP, Exposed Die Pad, Body 3 x 3 mm, Pitch 0.65 mm; Supplier 1: Digi-Key; Supplier Part Number 1: LT3489EMS8E#TRPBF-ND; Packing: Tape and Reel; RoHS: TRUE; Mounting Technology: Surface Mount; ComponentLink1Description: Manufacturer URL; ComponentLink1URL: http://www.linear.com/; ComponentLink2Description: Datasheet; ComponentLink2URL: http://cds.linear.com/docs/en/datasheet/3489f.pdf; ComponentLink3Description: Package Specification; ComponentLink3URL: http://cds.linear.com/docs/en/datasheet/4070fc.pdf
footprint LT-MS8E-8-2060X1830TP_N (SOP, 8-Leads, Body 3.1x3.1mm, Pitch 0.65mm, Thermal Pad 2.162x1.932mm, IPC Medium Density)
footprint LT-MS8E-8-2060X1830TP_L (SOP, 8-Leads, Body 3.1x3.1mm, Pitch 0.65mm, Thermal Pad 2.162x1.932mm, IPC High Density)
footprint LT-MS8E-8-2060X1830TP_M (SOP, 8-Leads, Body 3.1x3.1mm, Pitch 0.65mm, Thermal Pad 2.162x1.932mm, IPC Low Density)
pins: 1 VC "Error Amplifer Output Pin. Tie external compensation network to this pin, or use the internal compensation  network by shorting the VC pin to the COMP pin.", 2 FB (in) "Feedback Pin.", 3 ~{SHDN} (in) "Shutdown Pin. Ground to shut down. Do not foat this pin.", 4 GND (power) "Ground. Tie directly to local ground plane.", 5 SW (power) "Switch Pin. This is the collector of the internal  NPN power switch. Minimize the metal trace area connected  to this pin to minimize EMI.", 6 VIN (power) "Input Supply Pin. Must be locally bypassed.", 7 COMP "Internal Compensation Pin. Provides an internal compensation network. Tie directly to the VC pin for internal compensation. Tie to GND if not in use.", 8 SS (in) "Soft-Start Pin. Place a soft-start capacitor here.", 9 EP (power) "Ground."

## LT3493EDCB
designator U?
1.2 A, 750 kHz Step-Down Switching Regulator, 6-pin SON (DCB-6), -40 to 85 degC; Manufacturer: Linear Technology; PartNumber: LT3493EDCB; Number of Outputs: 1; Over Voltage Protection(V): 40; DatasheetVersion: Rev. B; PackageVersion: Rev. A, 03/2011; PackageReference: DCB-6; PackageDescription: 6-Pin Plastic DFN, Body 2 x 3 mm, Pitch 0.5 mm; RoHS: FALSE; Mounting Technology: Surface Mount; Code_JEDEC: MO-229; ComponentLink1Description: Manufacturer URL; ComponentLink1URL: http://www.linear.com/; ComponentLink2Description: Datasheet; ComponentLink2URL: http://cds.linear.com/docs/en/datasheet/3493fb.pdf; ComponentLink3Description: Package Specification; ComponentLink3URL: http://www.linear.com/docs/en/packaging/(DCB6)%20DFN%2005-08-1715%20Rev%20A.pdf
footprint LT-DCB-6_V (SON, 6-Leads, Body 3x2mm, Pitch 0.5mm, Thermal Pad 1.65x1.35mm)
pins: 1 FB (in) "The LT3493-3 regulates its feedback pin to 780mV. Connect the feedback resistor divider tap to this pin. Set the output voltage according to VOUT = 0.78V x (1 + R1/R2). A good value for R2 is 10k.", 2 GND (power) "Tie the GND pin to a local ground plane below the LT3493-3 and the circuit components. Return the feedback divider to this pin.", 3 BOOST "The BOOST pin is used to provide a drive voltage, higher than the input voltage, to the internal bipolar NPN power switch.", 4 SW (power) "The SW pin is the output of the internal power switch. Connect this pin to the inductor, catch diode and boost capacitor.", 5 VIN (power) "The VIN pin supplies current to the LT3493-3's internal regulator and to the internal power switch. This pin must be locally bypassed.", 6 ~{SHDN} (in) "The S\H\D\N\ pin is used to put the LT3493-3 in shutdown mode. Tie to ground to shut down the LT3493-3. Tie to 2.3V or more for normal operation. If the shutdown feature is not used, tie this pin to the VIN pin. S\H\D\N\ (See Datasheet)", 7 EP (power) "The Exposed Pad must be soldered to the PCB and electrically connected to ground. Use a large ground plane and thermal vias to optimize thermal performance."

## LT3493EDCB#PBF
designator U?
1.2 A, 750 kHz Step-Down Switching Regulator, 6-pin SON (DCB-6), -40 to 85 degC, Pb-Free; Manufacturer: Linear Technology; PartNumber: LT3493EDCB#PBF; Number of Outputs: 1; Over Voltage Protection(V): 40; DatasheetVersion: Rev. B; PackageVersion: Rev. A, 03/2011; PackageReference: DCB-6; PackageDescription: 6-Pin Plastic DFN, Body 2 x 3 mm, Pitch 0.5 mm; Supplier 1: Farnell; Supplier Part Number 1: 1531511; Supplier 2: Newark; Supplier Part Number 2: 61M3376; RoHS: TRUE; Mounting Technology: Surface Mount; Code_JEDEC: MO-229; ComponentLink1Description: Manufacturer URL; ComponentLink1URL: http://www.linear.com/; ComponentLink2Description: Datasheet; ComponentLink2URL: http://cds.linear.com/docs/en/datasheet/3493fb.pdf; ComponentLink3Description: Package Specification; ComponentLink3URL: http://www.linear.com/docs/en/packaging/(DCB6)%20DFN%2005-08-1715%20Rev%20A.pdf
footprint LT-DCB-6_V (SON, 6-Leads, Body 3x2mm, Pitch 0.5mm, Thermal Pad 1.65x1.35mm)
pins: 1 FB (in) "The LT3493-3 regulates its feedback pin to 780mV. Connect the feedback resistor divider tap to this pin. Set the output voltage according to VOUT = 0.78V x (1 + R1/R2). A good value for R2 is 10k.", 2 GND (power) "Tie the GND pin to a local ground plane below the LT3493-3 and the circuit components. Return the feedback divider to this pin.", 3 BOOST "The BOOST pin is used to provide a drive voltage, higher than the input voltage, to the internal bipolar NPN power switch.", 4 SW (power) "The SW pin is the output of the internal power switch. Connect this pin to the inductor, catch diode and boost capacitor.", 5 VIN (power) "The VIN pin supplies current to the LT3493-3's internal regulator and to the internal power switch. This pin must be locally bypassed.", 6 ~{SHDN} (in) "The S\H\D\N\ pin is used to put the LT3493-3 in shutdown mode. Tie to ground to shut down the LT3493-3. Tie to 2.3V or more for normal operation. If the shutdown feature is not used, tie this pin to the VIN pin. S\H\D\N\ (See Datasheet)", 7 EP (power) "The Exposed Pad must be soldered to the PCB and electrically connected to ground. Use a large ground plane and thermal vias to optimize thermal performance."

## LT3493EDCB#TRMPBF
designator U?
1.2 A, 750 kHz Step-Down Switching Regulator, 6-pin SON (DCB-6), -40 to 85 degC, Pb-Free, Mini Tape and Reel; Manufacturer: Linear Technology; PartNumber: LT3493EDCB#TRMPBF; Number of Outputs: 1; Over Voltage Protection(V): 40; DatasheetVersion: Rev. B; PackageVersion: Rev. A, 03/2011; PackageReference: DCB-6; PackageDescription: 6-Pin Plastic DFN, Body 2 x 3 mm, Pitch 0.5 mm; Supplier 1: Digi-Key; Supplier Part Number 1: LT3493EDCB#TRMPBFTR-ND; Supplier 2: Digi-Key; Supplier Part Number 2: LT3493EDCB#TRMPBFCT-ND; Supplier 3: Digi-Key; Supplier Part Number 3: LT3493EDCB#TRMPBFDKR-ND; Supplier 4: Farnell; Supplier Part Number 4: 1663837; Supplier 5: Farnell; Supplier Part Number 5: 1663837RL; Supplier 6: Newark; Supplier Part Number 6: 57M8430; Packing: Mini Tape and Reel; RoHS: TRUE; Mounting Technology: Surface Mount; Code_JEDEC: MO-229; ComponentLink1Description: Manufacturer URL; ComponentLink1URL: http://www.linear.com/; ComponentLink2Description: Datasheet; ComponentLink2URL: http://cds.linear.com/docs/en/datasheet/3493fb.pdf; ComponentLink3Description: Package Specification; ComponentLink3URL: http://www.linear.com/docs/en/packaging/(DCB6)%20DFN%2005-08-1715%20Rev%20A.pdf
footprint LT-DCB-6_V (SON, 6-Leads, Body 3x2mm, Pitch 0.5mm, Thermal Pad 1.65x1.35mm)
pins: 1 FB (in) "The LT3493-3 regulates its feedback pin to 780mV. Connect the feedback resistor divider tap to this pin. Set the output voltage according to VOUT = 0.78V x (1 + R1/R2). A good value for R2 is 10k.", 2 GND (power) "Tie the GND pin to a local ground plane below the LT3493-3 and the circuit components. Return the feedback divider to this pin.", 3 BOOST "The BOOST pin is used to provide a drive voltage, higher than the input voltage, to the internal bipolar NPN power switch.", 4 SW (power) "The SW pin is the output of the internal power switch. Connect this pin to the inductor, catch diode and boost capacitor.", 5 VIN (power) "The VIN pin supplies current to the LT3493-3's internal regulator and to the internal power switch. This pin must be locally bypassed.", 6 ~{SHDN} (in) "The S\H\D\N\ pin is used to put the LT3493-3 in shutdown mode. Tie to ground to shut down the LT3493-3. Tie to 2.3V or more for normal operation. If the shutdown feature is not used, tie this pin to the VIN pin. S\H\D\N\ (See Datasheet)", 7 EP (power) "The Exposed Pad must be soldered to the PCB and electrically connected to ground. Use a large ground plane and thermal vias to optimize thermal performance."

## LT3493EDCB#TRPBF
designator U?
1.2 A, 750 kHz Step-Down Switching Regulator, 6-pin SON (DCB-6), -40 to 85 degC, Pb-Free, Tape and Reel; Manufacturer: Linear Technology; PartNumber: LT3493EDCB#TRPBF; Number of Outputs: 1; Over Voltage Protection(V): 40; DatasheetVersion: Rev. B; PackageVersion: Rev. A, 03/2011; PackageReference: DCB-6; PackageDescription: 6-Pin Plastic DFN, Body 2 x 3 mm, Pitch 0.5 mm; Supplier 1: Digi-Key; Supplier Part Number 1: LT3493EDCB#TRPBF-ND; Supplier 2: Newark; Supplier Part Number 2: 57M8431; Packing: Tape and Reel; RoHS: TRUE; Mounting Technology: Surface Mount; Code_JEDEC: MO-229; ComponentLink1Description: Manufacturer URL; ComponentLink1URL: http://www.linear.com/; ComponentLink2Description: Datasheet; ComponentLink2URL: http://cds.linear.com/docs/en/datasheet/3493fb.pdf; ComponentLink3Description: Package Specification; ComponentLink3URL: http://www.linear.com/docs/en/packaging/(DCB6)%20DFN%2005-08-1715%20Rev%20A.pdf
footprint LT-DCB-6_V (SON, 6-Leads, Body 3x2mm, Pitch 0.5mm, Thermal Pad 1.65x1.35mm)
pins: 1 FB (in) "The LT3493-3 regulates its feedback pin to 780mV. Connect the feedback resistor divider tap to this pin. Set the output voltage according to VOUT = 0.78V x (1 + R1/R2). A good value for R2 is 10k.", 2 GND (power) "Tie the GND pin to a local ground plane below the LT3493-3 and the circuit components. Return the feedback divider to this pin.", 3 BOOST "The BOOST pin is used to provide a drive voltage, higher than the input voltage, to the internal bipolar NPN power switch.", 4 SW (power) "The SW pin is the output of the internal power switch. Connect this pin to the inductor, catch diode and boost capacitor.", 5 VIN (power) "The VIN pin supplies current to the LT3493-3's internal regulator and to the internal power switch. This pin must be locally bypassed.", 6 ~{SHDN} (in) "The S\H\D\N\ pin is used to put the LT3493-3 in shutdown mode. Tie to ground to shut down the LT3493-3. Tie to 2.3V or more for normal operation. If the shutdown feature is not used, tie this pin to the VIN pin. S\H\D\N\ (See Datasheet)", 7 EP (power) "The Exposed Pad must be soldered to the PCB and electrically connected to ground. Use a large ground plane and thermal vias to optimize thermal performance."

## LT3493EDCB-3
designator U?
1.2 A, 750 kHz Step-Down Switching Regulator, 6-pin SON (DCB-6), -40 to 85 degC; Manufacturer: Linear Technology; PartNumber: LT3493EDCB-3; Number of Outputs: 1; Over Voltage Protection(V): 40; PackageVersion: Rev. A, 03/2011; PackageReference: DCB-6; PackageDescription: 6-Pin Plastic DFN, Body 2 x 3 mm, Pitch 0.5 mm; RoHS: FALSE; Mounting Technology: Surface Mount; Code_JEDEC: MO-229; ComponentLink1Description: Manufacturer URL; ComponentLink1URL: http://www.linear.com/; ComponentLink2Description: Datasheet; ComponentLink2URL: http://cds.linear.com/docs/en/datasheet/3493-3f.pdf; ComponentLink3Description: Package Specification; ComponentLink3URL: http://www.linear.com/docs/en/packaging/(DCB6)%20DFN%2005-08-1715%20Rev%20A.pdf
footprint LT-DCB-6_V (SON, 6-Leads, Body 3x2mm, Pitch 0.5mm, Thermal Pad 1.65x1.35mm)
pins: 1 FB (in) "The LT3493-3 regulates its feedback pin to 780mV. Connect the feedback resistor divider tap to this pin. Set the output voltage according to VOUT = 0.78V x (1 + R1/R2). A good value for R2 is 10k.", 2 GND (power) "Tie the GND pin to a local ground plane below the LT3493-3 and the circuit components. Return the feedback divider to this pin.", 3 BOOST "The BOOST pin is used to provide a drive voltage, higher than the input voltage, to the internal bipolar NPN power switch.", 4 SW (power) "The SW pin is the output of the internal power switch. Connect this pin to the inductor, catch diode and boost capacitor.", 5 VIN (power) "The VIN pin supplies current to the LT3493-3's internal regulator and to the internal power switch. This pin must be locally bypassed.", 6 ~{SHDN} (in) "The S\H\D\N\ pin is used to put the LT3493-3 in shutdown mode. Tie to ground to shut down the LT3493-3. Tie to 2.3V or more for normal operation. If the shutdown feature is not used, tie this pin to the VIN pin. S\H\D\N\ (See Datasheet)", 7 EP (power) "The Exposed Pad must be soldered to the PCB and electrically connected to ground. Use a large ground plane and thermal vias to optimize thermal performance."